# EAGLE library part XC3SE-TQ144 (library Xilinx)
Xilinx XC3S250E or (XC3S100E) in a TQ144 package
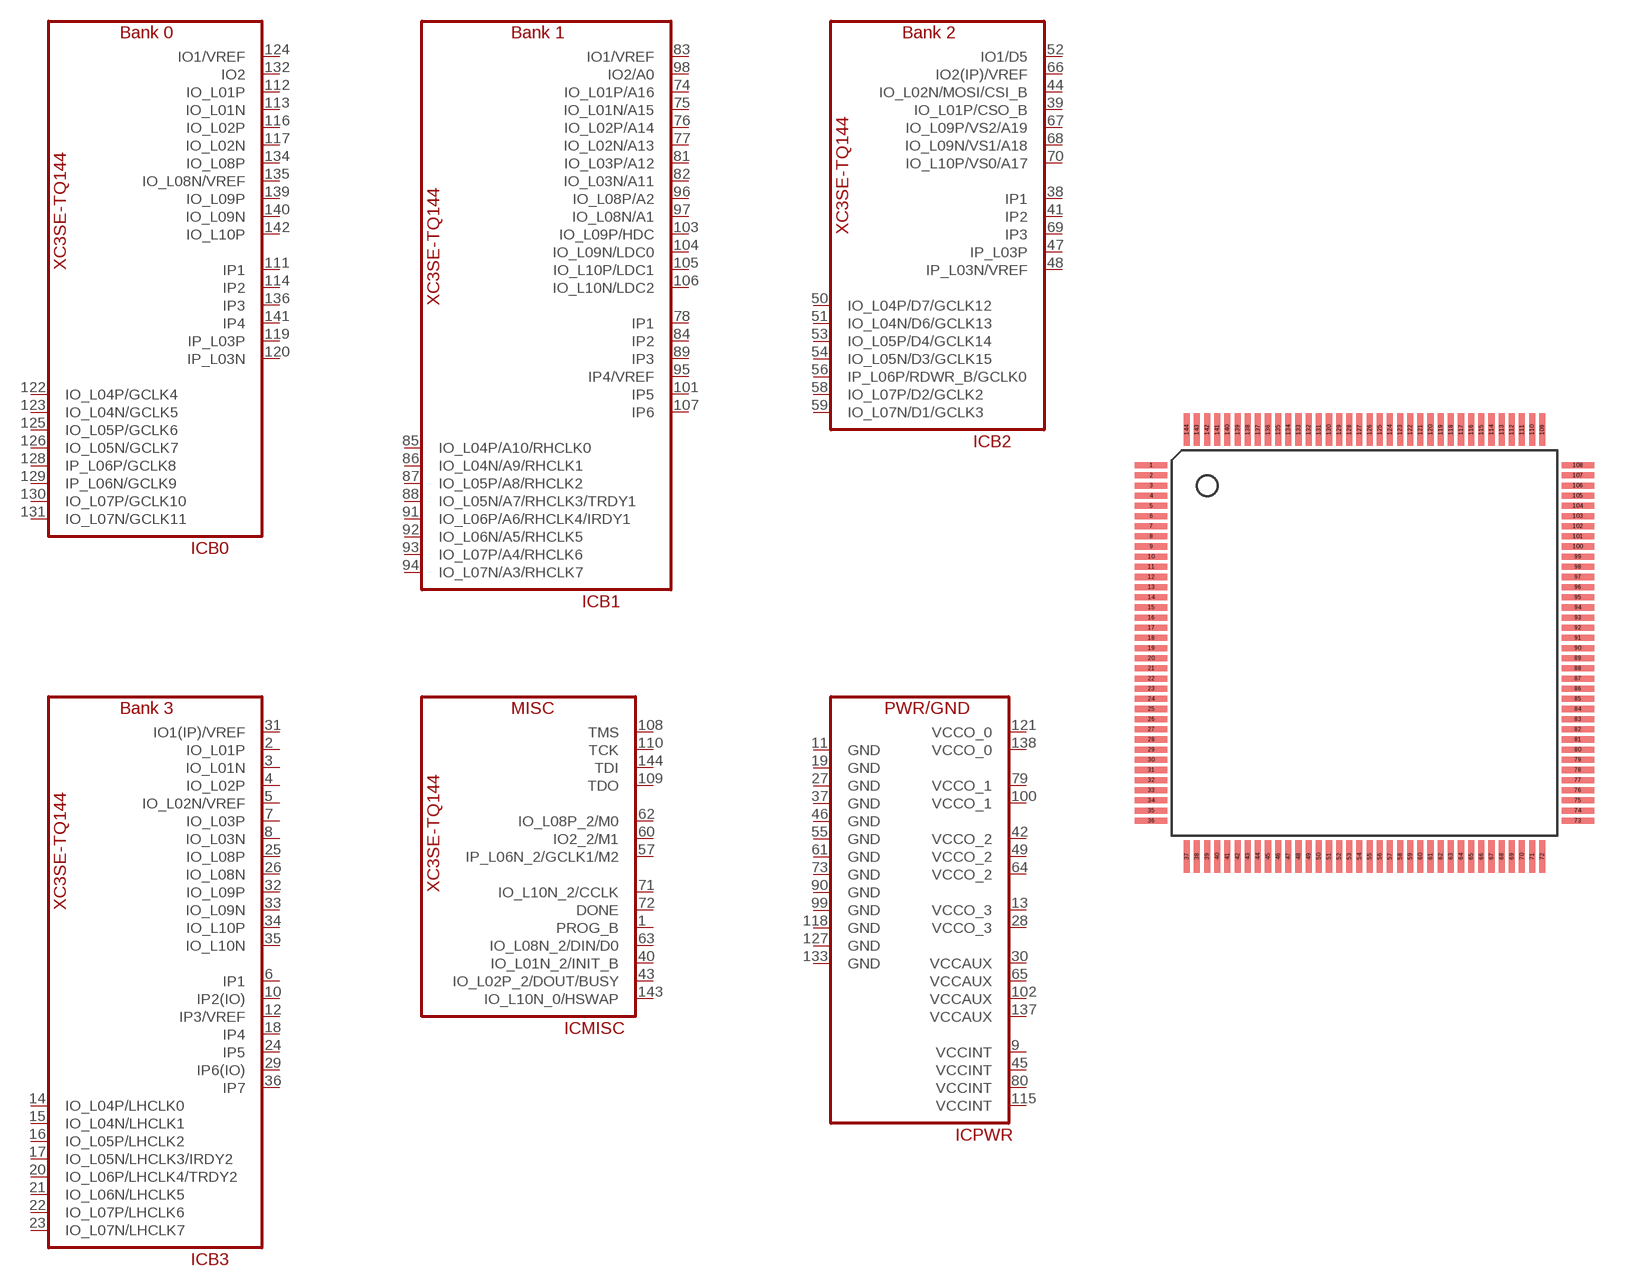
[diagram p37: symbol with the pads of TQ144; footprint TQ144]

Designator prefix IC; gates B1=XC3SE/TQ144-B1 B3=XC3SE/TQ144-B3 MISC=XC3SE/TQ144-MISC PWR=XC3SE/TQ144-PWR B0=XC3SE/TQ144-B0 B2=XC3SE/TQ144-B2

## XC3SE-TQ144  [TQ144]
1  MISC:PROG_B
2  B3:IO_L01P
3  B3:IO_L01N
4  B3:IO_L02P
5  B3:IO_L02N/VREF
6  B3:IP1  in
7  B3:IO_L03P
8  B3:IO_L03N
9  PWR:VCCINT  pwr
10  B3:IP2(IO)  in
11  PWR:GND  pwr
12  B3:IP3/VREF  in
13  PWR:VCCO_3  pwr
14  B3:IO_L04P/LHCLK0
15  B3:IO_L04N/LHCLK1
16  B3:IO_L05P/LHCLK2
17  B3:IO_L05N/LHCLK3/IRDY2
18  B3:IP4  in
19  PWR:GND  pwr
20  B3:IO_L06P/LHCLK4/TRDY2
21  B3:IO_L06N/LHCLK5
22  B3:IO_L07P/LHCLK6
23  B3:IO_L07N/LHCLK7
24  B3:IP5  in
25  B3:IO_L08P
26  B3:IO_L08N
27  PWR:GND  pwr
28  PWR:VCCO_3  pwr
29  B3:IP6(IO)  in
30  PWR:VCCAUX  pwr
31  B3:IO1(IP)/VREF
32  B3:IO_L09P
33  B3:IO_L09N
34  B3:IO_L10P
35  B3:IO_L10N
36  B3:IP7  in
37  PWR:GND  pwr
38  B2:IP1  in
39  B2:IO_L01P/CSO_B
40  MISC:IO_L01N_2/INIT_B
41  B2:IP2  in
42  PWR:VCCO_2  pwr
43  MISC:IO_L02P_2/DOUT/BUSY
44  B2:IO_L02N/MOSI/CSI_B
45  PWR:VCCINT  pwr
46  PWR:GND  pwr
47  B2:IP_L03P  in
48  B2:IP_L03N/VREF  in
49  PWR:VCCO_2  pwr
50  B2:IO_L04P/D7/GCLK12
51  B2:IO_L04N/D6/GCLK13
52  B2:IO1/D5
53  B2:IO_L05P/D4/GCLK14
54  B2:IO_L05N/D3/GCLK15
55  PWR:GND  pwr
56  B2:IP_L06P/RDWR_B/GCLK0  in
57  MISC:IP_L06N_2/GCLK1/M2  in
58  B2:IO_L07P/D2/GCLK2
59  B2:IO_L07N/D1/GCLK3
60  MISC:IO2_2/M1
61  PWR:GND  pwr
62  MISC:IO_L08P_2/M0
63  MISC:IO_L08N_2/DIN/D0
64  PWR:VCCO_2  pwr
65  PWR:VCCAUX  pwr
66  B2:IO2(IP)/VREF
67  B2:IO_L09P/VS2/A19
68  B2:IO_L09N/VS1/A18
69  B2:IP3  in
70  B2:IO_L10P/VS0/A17
71  MISC:IO_L10N_2/CCLK
72  MISC:DONE
73  PWR:GND  pwr
74  B1:IO_L01P/A16
75  B1:IO_L01N/A15
76  B1:IO_L02P/A14
77  B1:IO_L02N/A13
78  B1:IP1  in
79  PWR:VCCO_1  pwr
80  PWR:VCCINT  pwr
81  B1:IO_L03P/A12
82  B1:IO_L03N/A11
83  B1:IO1/VREF
84  B1:IP2  in
85  B1:IO_L04P/A10/RHCLK0
86  B1:IO_L04N/A9/RHCLK1
87  B1:IO_L05P/A8/RHCLK2
88  B1:IO_L05N/A7/RHCLK3/TRDY1
89  B1:IP3  in
90  PWR:GND  pwr
91  B1:IO_L06P/A6/RHCLK4/IRDY1
92  B1:IO_L06N/A5/RHCLK5
93  B1:IO_L07P/A4/RHCLK6
94  B1:IO_L07N/A3/RHCLK7
95  B1:IP4/VREF  in
96  B1:IO_L08P/A2
97  B1:IO_L08N/A1
98  B1:IO2/A0
99  PWR:GND  pwr
100  PWR:VCCO_1  pwr
101  B1:IP5  in
102  PWR:VCCAUX  pwr
103  B1:IO_L09P/HDC
104  B1:IO_L09N/LDC0
105  B1:IO_L10P/LDC1
106  B1:IO_L10N/LDC2
107  B1:IP6  in
108  MISC:TMS
109  MISC:TDO
110  MISC:TCK
111  B0:IP1  in
112  B0:IO_L01P
113  B0:IO_L01N
114  B0:IP2  in
115  PWR:VCCINT  pwr
116  B0:IO_L02P
117  B0:IO_L02N
118  PWR:GND  pwr
119  B0:IP_L03P  in
120  B0:IP_L03N  in
121  PWR:VCCO_0  pwr
122  B0:IO_L04P/GCLK4
123  B0:IO_L04N/GCLK5
124  B0:IO1/VREF
125  B0:IO_L05P/GCLK6
126  B0:IO_L05N/GCLK7
127  PWR:GND  pwr
128  B0:IP_L06P/GCLK8  in
129  B0:IP_L06N/GCLK9  in
130  B0:IO_L07P/GCLK10
131  B0:IO_L07N/GCLK11
132  B0:IO2
133  PWR:GND  pwr
134  B0:IO_L08P
135  B0:IO_L08N/VREF
136  B0:IP3  in
137  PWR:VCCAUX  pwr
138  PWR:VCCO_0  pwr
139  B0:IO_L09P
140  B0:IO_L09N
141  B0:IP4  in
142  B0:IO_L10P
143  MISC:IO_L10N_0/HSWAP
144  MISC:TDI

## Footprint TQ144 (pad centres in mm)
smd 1.6 x 0.3: 1 -10.5,8.75; 2 -10.5,8.25; 3 -10.5,7.75; 4 -10.5,7.25; 5 -10.5,6.75; 6 -10.5,6.25; 7 -10.5,5.75; 8 -10.5,5.25; 9 -10.5,4.75; 10 -10.5,4.25; 11 -10.5,3.75; 12 -10.5,3.25; 13 -10.5,2.75; 14 -10.5,2.25; 15 -10.5,1.75; 16 -10.5,1.25; 17 -10.5,0.75; 18 -10.5,0.25; 19 -10.5,-0.25; 20 -10.5,-0.75; 21 -10.5,-1.25; 22 -10.5,-1.75; 23 -10.5,-2.25; 24 -10.5,-2.75; 25 -10.5,-3.25; 26 -10.5,-3.75; 27 -10.5,-4.25; 28 -10.5,-4.75; 29 -10.5,-5.25; 30 -10.5,-5.75; 31 -10.5,-6.25; 32 -10.5,-6.75; 33 -10.5,-7.25; 34 -10.5,-7.75; 35 -10.5,-8.25; 36 -10.5,-8.75; 73 10.5,-8.75; 74 10.5,-8.25; 75 10.5,-7.75; 76 10.5,-7.25; 77 10.5,-6.75; 78 10.5,-6.25; 79 10.5,-5.75; 80 10.5,-5.25; 81 10.5,-4.75; 82 10.5,-4.25; 83 10.5,-3.75; 84 10.5,-3.25; 85 10.5,-2.75; 86 10.5,-2.25; 87 10.5,-1.75; 88 10.5,-1.25; 89 10.5,-0.75; 90 10.5,-0.25; 91 10.5,0.25; 92 10.5,0.75; 93 10.5,1.25; 94 10.5,1.75; 95 10.5,2.25; 96 10.5,2.75; 97 10.5,3.25; 98 10.5,3.75; 99 10.5,4.25; 100 10.5,4.75; 101 10.5,5.25; 102 10.5,5.75; 103 10.5,6.25; 104 10.5,6.75; 105 10.5,7.25; 106 10.5,7.75; 107 10.5,8.25; 108 10.5,8.75
smd 0.3 x 1.6: 37 -8.75,-10.5; 38 -8.25,-10.5; 39 -7.75,-10.5; 40 -7.25,-10.5; 41 -6.75,-10.5; 42 -6.25,-10.5; 43 -5.75,-10.5; 44 -5.25,-10.5; 45 -4.75,-10.5; 46 -4.25,-10.5; 47 -3.75,-10.5; 48 -3.25,-10.5; 49 -2.75,-10.5; 50 -2.25,-10.5; 51 -1.75,-10.5; 52 -1.25,-10.5; 53 -0.75,-10.5; 54 -0.25,-10.5; 55 0.25,-10.5; 56 0.75,-10.5; 57 1.25,-10.5; 58 1.75,-10.5; 59 2.25,-10.5; 60 2.75,-10.5; 61 3.25,-10.5; 62 3.75,-10.5; 63 4.25,-10.5; 64 4.75,-10.5; 65 5.25,-10.5; 66 5.75,-10.5; 67 6.25,-10.5; 68 6.75,-10.5; 69 7.25,-10.5; 70 7.75,-10.5; 71 8.25,-10.5; 72 8.75,-10.5; 109 8.75,10.5; 110 8.25,10.5; 111 7.75,10.5; 112 7.25,10.5; 113 6.75,10.5; 114 6.25,10.5; 115 5.75,10.5; 116 5.25,10.5; 117 4.75,10.5; 118 4.25,10.5; 119 3.75,10.5; 120 3.25,10.5; 121 2.75,10.5; 122 2.25,10.5; 123 1.75,10.5; 124 1.25,10.5; 125 0.75,10.5; 126 0.25,10.5; 127 -0.25,10.5; 128 -0.75,10.5; 129 -1.25,10.5; 130 -1.75,10.5; 131 -2.25,10.5; 132 -2.75,10.5; 133 -3.25,10.5; 134 -3.75,10.5; 135 -4.25,10.5; 136 -4.75,10.5; 137 -5.25,10.5; 138 -5.75,10.5; 139 -6.25,10.5; 140 -6.75,10.5; 141 -7.25,10.5; 142 -7.75,10.5; 143 -8.25,10.5; 144 -8.75,10.5